# Altium schematic symbol library RJ45_SHIELDED.Schlib: 1 symbol
Pins are listed as number, name and electrical type; pins without a type are passive.

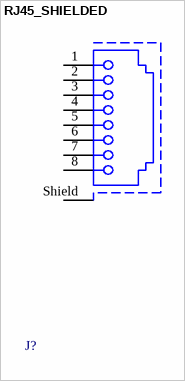
[diagram p0: symbol RJ45_SHIELDED]

## RJ45_SHIELDED
designator J?
Modular Jack Shielded 8P8C
pins: 1, 2, 3, 4, 5, 6, 7, 8, Shield